# Altium schematic symbol library SCH - MCU - TI - TI MSPM0C110X SOT-8 DDF.SchLib: 1 symbol
Pins are listed as number, name and electrical type; pins without a type are passive.

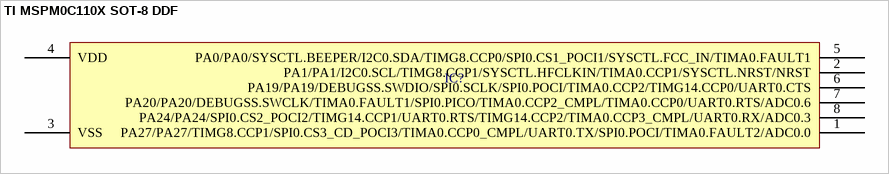
[diagram p0: symbol TI MSPM0C110X SOT-8 DDF]

## TI MSPM0C110X SOT-8 DDF
designator IC?
pins: 1 PA27/PA27/TIMG8.CCP1/SPI0.CS3_CD_POCI3/TIMA0.CCP0_CMPL/UART0.TX/SPI0.POCI/TIMA0.FAULT2/ADC0.0, 2 PA1/PA1/I2C0.SCL/TIMG8.CCP1/SYSCTL.HFCLKIN/TIMA0.CCP1/SYSCTL.NRST/NRST, 3 VSS, 4 VDD, 5 PA0/PA0/SYSCTL.BEEPER/I2C0.SDA/TIMG8.CCP0/SPI0.CS1_POCI1/SYSCTL.FCC_IN/TIMA0.FAULT1, 6 PA19/PA19/DEBUGSS.SWDIO/SPI0.SCLK/SPI0.POCI/TIMA0.CCP2/TIMG14.CCP0/UART0.CTS, 7 PA20/PA20/DEBUGSS.SWCLK/TIMA0.FAULT1/SPI0.PICO/TIMA0.CCP2_CMPL/TIMA0.CCP0/UART0.RTS/ADC0.6, 8 PA24/PA24/SPI0.CS2_POCI2/TIMG14.CCP1/UART0.RTS/TIMG14.CCP2/TIMA0.CCP3_CMPL/UART0.RX/ADC0.3